# Altium schematic symbol library SJ1-3525NG.SchLib: 1 symbol
Pins are listed as number, name and electrical type; pins without a type are passive.

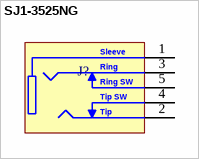
[diagram p0: symbol SJ1-3525NG]

## SJ1-3525NG
designator J?
3.5 mm Right-Angle Stereo Jack, 5 Pin PCB Mount, Isolated Ground
pins: 1, 2, 3, 4, 5
text: Sleeve; Ring; Ring SW; Tip SW; Tip